# Altium integrated library SRV05-4.TCT.IntLib: 1 symbol
Pins are listed as number, name and electrical type; pins without a type are passive.

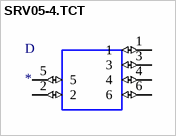
[diagram p0: symbol SRV05-4.TCT]

## SRV05-4.TCT
designator D
17.5V Clamp 12A _8/20Âµs_ Ipp Tvs Diode Surface Mount SOT-23-6; MP: SRV05-4.TCT; MF: Semtech; Availability: Unavailable; SnapEDA_Link: https://www.snapeda.com/parts/SRV05-4.TCT/Semtech%20Corporation/view-part/13991/?ref=snap; Package: SOT-23 Semtech; Value: *; Price: None
footprint SOT95P280X145-6N
pins: 1 (io), 2 (io), 3 (io), 4 (io), 5 (io), 6 (io)